# Altium schematic symbol library MCP73831T-2DCI_OT.SCHLIB: 1 symbol
Pins are listed as number, name and electrical type; pins without a type are passive.

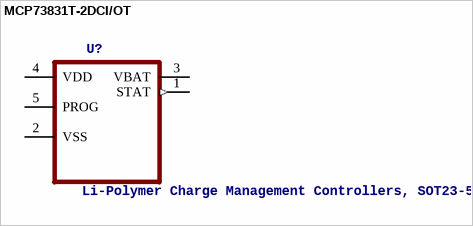
[diagram p0: symbol MCP73831T-2DCI/OT]

## MCP73831T-2DCI/OT
designator U?, comment Li-Polymer Charge Management Controllers, SOT23-5
footprint SOT95P270X145-5N
pins: 1 STAT (out), 2 VSS (power), 3 VBAT (power), 4 VDD (power), 5 PROG